# Altium schematic symbol library F429_F746_F767_Core.SCHLIB: 28 symbols
Pins are listed as number, name and electrical type; pins without a type are passive.

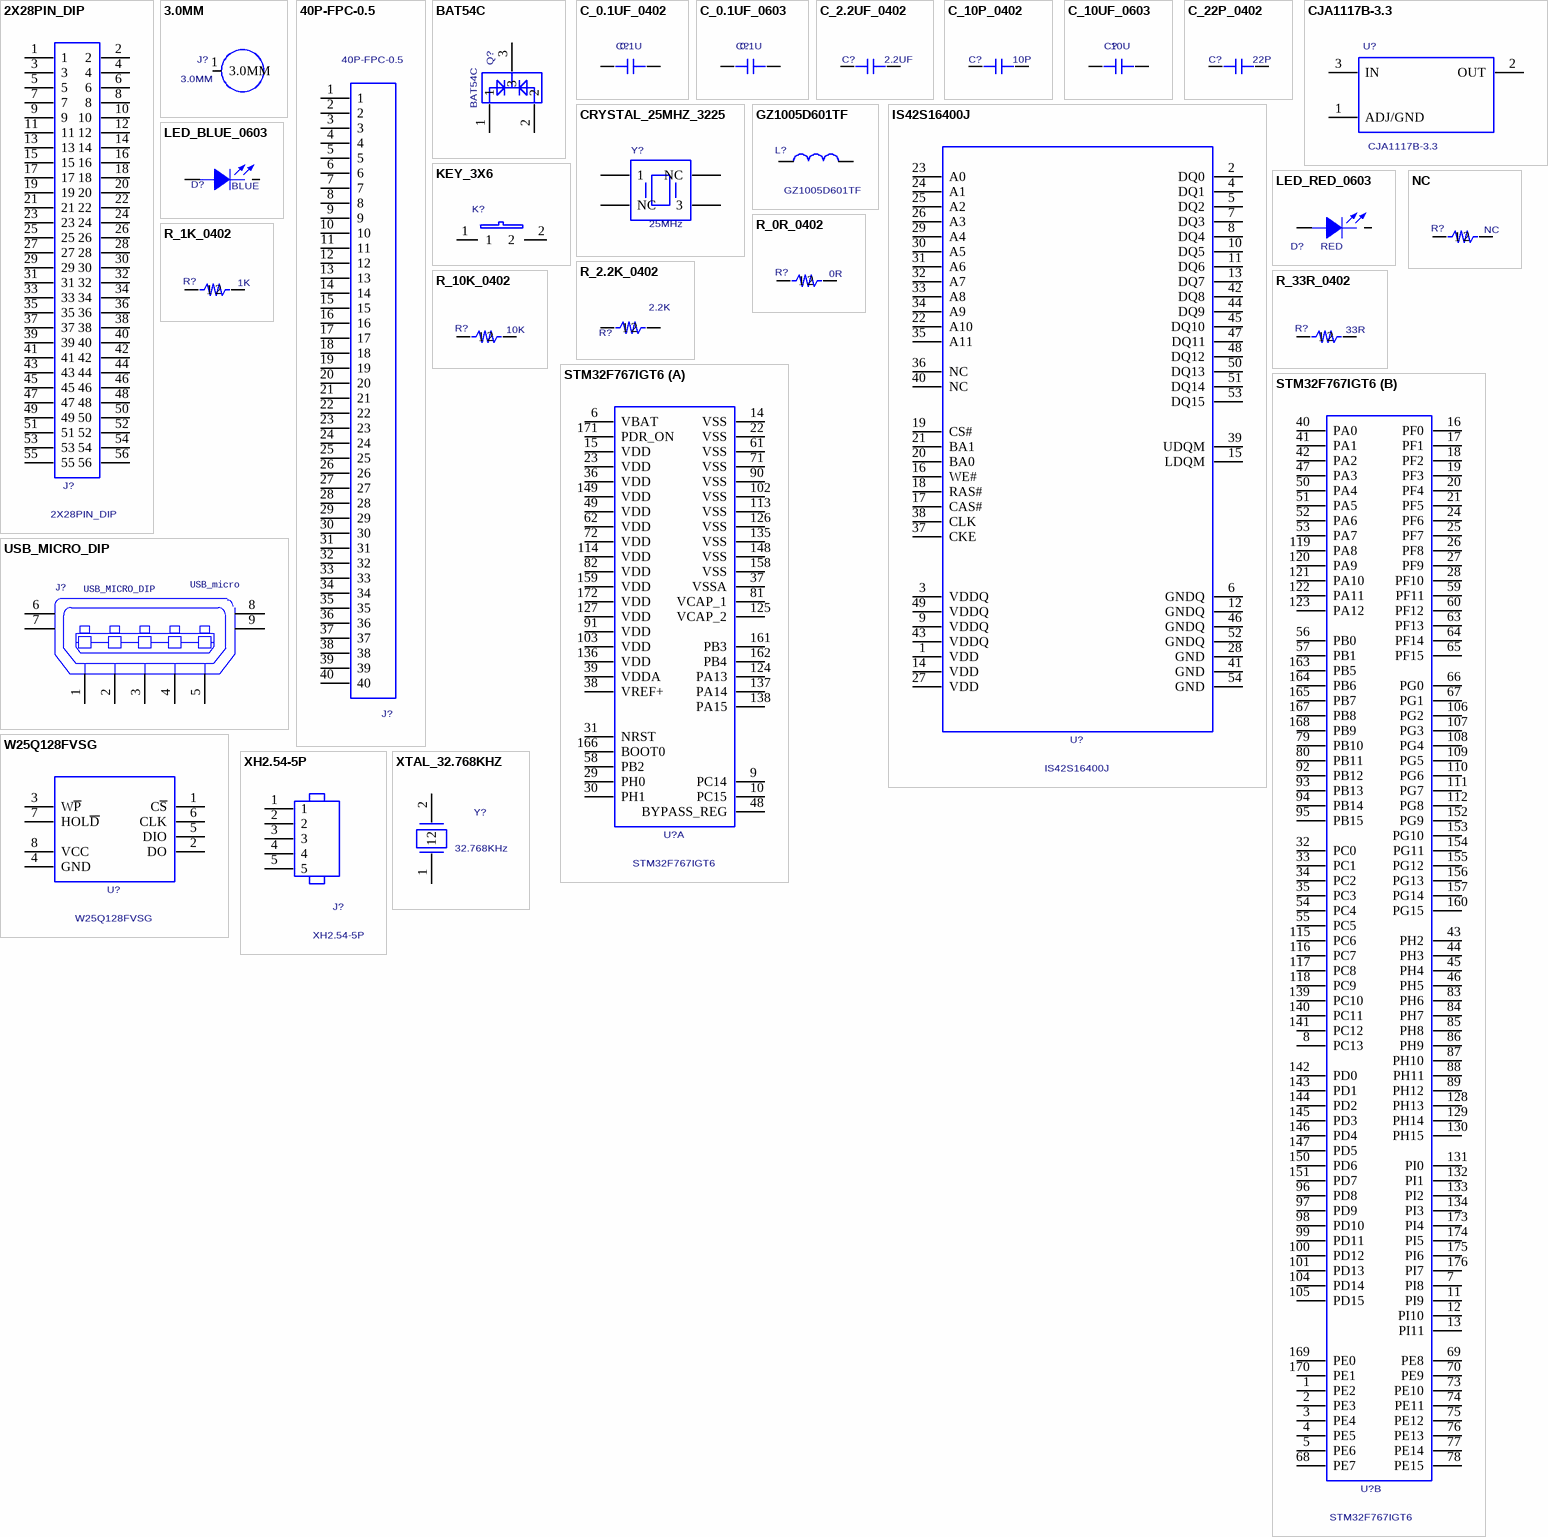
[diagram p0: symbols 2X28PIN_DIP to XTAL_32.768KHZ]

## 2X28PIN_DIP
designator J?
PCB DECAL: 2X28X2.54MM; value: 2X28PIN_DIP
footprint 2X28X2.54MM
pins: 1, 2, 3, 4, 5, 6, 7, 8, 9, 10, 11, 12, 13, 14, 15, 16, 17, 18, 19, 20, 21, 22, 23, 24, 25, 26, 27, 28, 29, 30, 31, 32, 33, 34, 35, 36, 37, 38, 39, 40, 41, 42, 43, 44, 45, 46, 47, 48, 49, 50, 51, 52, 53, 54, 55, 56

## 3.0MM
designator J?
PCB DECAL: 3.0MM
footprint 3.0MM
pins: 1 3.0MM

## 40P-FPC-0.5
designator J?
PCB DECAL: 40P-FPC-0.5
footprint 40P-FPC-0.5
pins: 1, 2, 3, 4, 5, 6, 7, 8, 9, 10, 11, 12, 13, 14, 15, 16, 17, 18, 19, 20, 21, 22, 23, 24, 25, 26, 27, 28, 29, 30, 31, 32, 33, 34, 35, 36, 37, 38, 39, 40

## BAT54C
designator Q?
PCB DECAL: SOT-23; Value: BAT54C
footprint SOT-23
pins: 1, 2, 3

## C_0.1UF_0402
designator C?  value 0.1U  (hidden comment: C_0.1UF_0402)
PCB DECAL: SC0402
footprint SC0402
pins: 1, 2

## C_0.1UF_0603
designator C?  value 0.1U  (hidden comment: C_0.1UF_0603)
PCB DECAL: C_0603
footprint C_0603
pins: 1, 2

## C_2.2UF_0402
designator C?  value 2.2UF  (hidden comment: C_2.2UF_0402)
PCB DECAL: SC0402
footprint SC0402
pins: 1, 2

## C_10P_0402
designator C?  value 10P  (hidden comment: C_10P_0402)
PCB DECAL: SC0402
footprint SC0402
pins: 1, 2

## C_10UF_0603
designator C?  value 10U  (hidden comment: C_10UF_0603)
PCB DECAL: C_0603
footprint C_0603
pins: 1, 2

## C_22P_0402
designator C?  value 22P  (hidden comment: C_22P_0402)
PCB DECAL: SC0402
footprint SC0402
pins: 1, 2

## CJA1117B-3.3
designator U?
Manufacturer #1: JCST; PCB DECAL: SOT-89-3L; Value: CJA1117B-3.3
footprint SOT-89-3L
pins: 1 ADJ/GND, 2 OUT, 3 IN

## CRYSTAL_25MHZ_3225
designator Y?  value 25MHz  (hidden comment: CRYSTAL_25MHZ_3225)
PCB DECAL: 3225
footprint 3225
pins: 1, 2 NC, 3, 4 NC

## GZ1005D601TF
designator L?
PCB DECAL: SR0402; Value: GZ1005D601TF
footprint SR0402
pins: 1, 2

## IS42S16400J
designator U?
PCB DECAL: TSOP-54; Value: IS42S16400J
footprint TSOP-54
pins: 1 VDD, 2 DQ0, 3 VDDQ, 4 DQ1, 5 DQ2, 6 GNDQ, 7 DQ3, 8 DQ4, 9 VDDQ, 10 DQ5, 11 DQ6, 12 GNDQ, 13 DQ7, 14 VDD, 15 LDQM, 16 WE#, 17 CAS#, 18 RAS#, 19 CS#, 20 BA0, 21 BA1, 22 A10, 23 A0, 24 A1, 25 A2, 26 A3, 27 VDD, 28 GND, 29 A4, 30 A5, 31 A6, 32 A7, 33 A8, 34 A9, 35 A11, 36 NC, 37 CKE, 38 CLK, 39 UDQM, 40 NC, 41 GND, 42 DQ8, 43 VDDQ, 44 DQ9, 45 DQ10, 46 GNDQ, 47 DQ11, 48 DQ12, 49 VDDQ, 50 DQ13, 51 DQ14, 52 GNDQ, 53 DQ15, 54 GND

## KEY_3X6
designator K?  (value not drawn)
Manufacturer #1 PN: KEY; PCB DECAL: SW3/6-SMD
footprint SW3/6-SMD
pins: 1, 2

## LED_BLUE_0603
designator D?  value BLUE  (hidden comment: LED_BLUE_0603)
PCB DECAL: LED_0603
footprint LED_0603
pins: A ANODE, K CATHODE

## LED_RED_0603
designator D?  value RED  (hidden comment: LED_RED_0603)
PCB DECAL: LED_0603
footprint LED_0603
pins: A ANODE, K CATHODE

## NC
designator R?
PCB DECAL: SR0402; Value: NC
footprint SR0402
pins: 1, 2

## R_0R_0402
designator R?  value 0R  (hidden comment: R_0R_0402)
PCB DECAL: SR0402
footprint SR0402
pins: 1, 2

## R_1K_0402
designator R?  value 1K  (hidden comment: R_1K_0402)
PCB DECAL: SR0402
footprint SR0402
pins: 1, 2

## R_2.2K_0402
designator R?  value 2.2K  (hidden comment: R_2.2K_0402)
PCB DECAL: SR0402
footprint SR0402
pins: 1, 2

## R_10K_0402
designator R?  value 10K  (hidden comment: R_10K_0402)
PCB DECAL: SR0402
footprint SR0402
pins: 1, 2

## R_33R_0402
designator R?  value 33R  (hidden comment: R_33R_0402)
PCB DECAL: SR0402
footprint SR0402
pins: 1, 2

## STM32F767IGT6
designator U?
PCB DECAL: LQFP176; Value: STM32F767IGT6
footprint LQFP176
part A pins: 6 VBAT, 9 PC14, 10 PC15, 14 VSS, 15 VDD, 22 VSS, 23 VDD, 29 PH0, 30 PH1, 31 NRST, 36 VDD, 37 VSSA, 38 VREF+, 39 VDDA, 48 BYPASS_REG, 49 VDD, 58 PB2, 61 VSS, 62 VDD, 71 VSS, 72 VDD, 81 VCAP_1, 82 VDD, 90 VSS, 91 VDD, 102 VSS, 103 VDD, 113 VSS, 114 VDD, 124 PA13, 125 VCAP_2, 126 VSS, 127 VDD, 135 VSS, 136 VDD, 137 PA14, 138 PA15, 148 VSS, 149 VDD, 158 VSS, 159 VDD, 161 PB3, 162 PB4, 166 BOOT0, 171 PDR_ON, 172 VDD
part B pins: 1 PE2, 2 PE3, 3 PE4, 4 PE5, 5 PE6, 7 PI8, 8 PC13, 11 PI9, 12 PI10, 13 PI11, 16 PF0, 17 PF1, 18 PF2, 19 PF3, 20 PF4, 21 PF5, 24 PF6, 25 PF7, 26 PF8, 27 PF9, 28 PF10, 32 PC0, 33 PC1, 34 PC2, 35 PC3, 40 PA0, 41 PA1, 42 PA2, 43 PH2, 44 PH3, 45 PH4, 46 PH5, 47 PA3, 50 PA4, 51 PA5, 52 PA6, 53 PA7, 54 PC4, 55 PC5, 56 PB0, 57 PB1, 59 PF11, 60 PF12, 63 PF13, 64 PF14, 65 PF15, 66 PG0, 67 PG1, 68 PE7, 69 PE8, 70 PE9, 73 PE10, 74 PE11, 75 PE12, 76 PE13, 77 PE14, 78 PE15, 79 PB10, 80 PB11, 83 PH6, 84 PH7, 85 PH8, 86 PH9, 87 PH10, 88 PH11, 89 PH12, 92 PB12, 93 PB13, 94 PB14, 95 PB15, 96 PD8, 97 PD9, 98 PD10, 99 PD11, 100 PD12, 101 PD13, 104 PD14, 105 PD15, 106 PG2, 107 PG3, 108 PG4, 109 PG5, 110 PG6, 111 PG7, 112 PG8, 115 PC6, 116 PC7, 117 PC8, 118 PC9, 119 PA8, 120 PA9, 121 PA10, 122 PA11, 123 PA12, 128 PH13, 129 PH14, 130 PH15, 131 PI0, 132 PI1, 133 PI2, 134 PI3, 139 PC10, 140 PC11, 141 PC12, 142 PD0, 143 PD1, 144 PD2, 145 PD3, 146 PD4, 147 PD5, 150 PD6, 151 PD7, 152 PG9, 153 PG10, 154 PG11, 155 PG12, 156 PG13, 157 PG14, 160 PG15, 163 PB5, 164 PB6, 165 PB7, 167 PB8, 168 PB9, 169 PE0, 170 PE1, 173 PI4, 174 PI5, 175 PI6, 176 PI7

## USB_MICRO_DIP
designator J?  value USB_micro
PCB DECAL: MICRO_USB_5S
footprint MICRO_USB_5S
pins: 1 VBUS, 2 D-, 3 D+, 4 ID, 5 GND, 6 GND, 7 GND, 8 GND, 9 GND

## W25Q128FVSG
designator U?
PCB DECAL: W25Q128; value: W25Q128FVSG
footprint W25Q128
pins: 1 C~{S}, 2 DO, 3 W~{P}, 4 GND, 5 DIO, 6 CLK, 7 HOL~{D}, 8 VCC

## XH2.54-5P
designator J?
PCB DECAL: XH2.54-5P; Value: XH2.54-5P
footprint XH2.54-5P
pins: 1, 2, 3, 4, 5

## XTAL_32.768KHZ
designator Y?  value 32.768KHz  (hidden comment: XTAL_32.768KHZ)
PCB DECAL: 3215
footprint 3215
pins: 1, 2